# Altium footprint library 9775026360.PcbLib: 1 footprints
Each footprint in its own frame and in the unit in brackets; x right, y up, seen from the top. Pads: shape width x height; smd on the part's side, far side on the other; paste and mask are expansions set on the pad; w line width, h text height; cw(c..) or ccw(c..) is an arc to the next point about the centre after c.
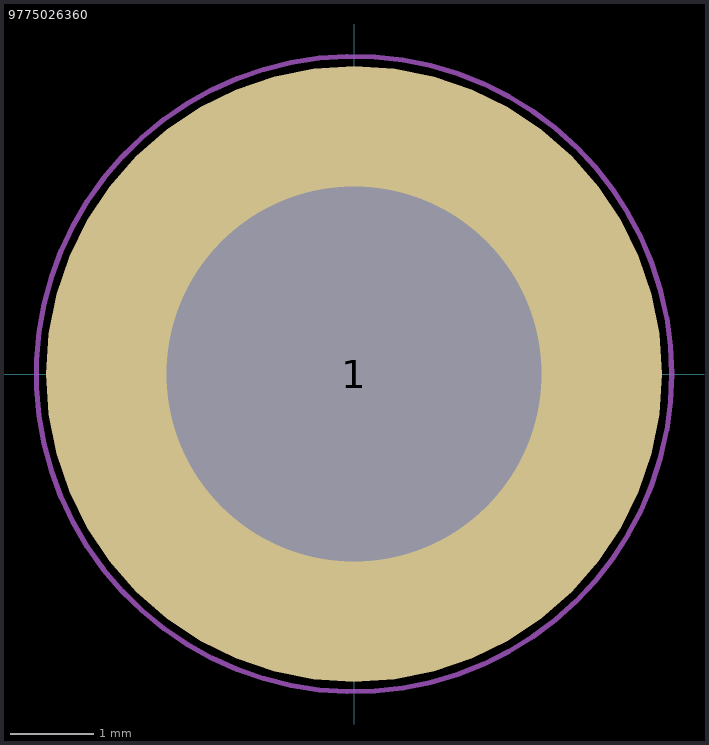
[diagram p0: the footprint, top view; thin cyan lines are the x and y axes]

## 9775026360 [mm]
pads (1):
  round 7.4 hole 4.5 mask+0.05: 1(0,0)
Top Paste:
  region: -3.613,0.4 -2.204,0.4 -2.204,0.401 -2.167,0.566 -2.057,0.887 -1.9,1.187 -1.699,1.46 -1.459,1.699 -1.186,1.9 -0.886,2.057 -0.566,2.167 -0.4,2.204 -0.4,3.613 -0.603,3.59 -1.003,3.5 -1.389,3.365 -1.759,3.188 -2.105,2.97 -2.426,2.715 -2.715,2.426 -2.97,2.105 -3.188,1.759 -3.365,1.389 -3.5,1.003 -3.59,0.603
  region: -0.4,-3.613 -0.4,-2.204 -0.401,-2.204 -0.566,-2.167 -0.887,-2.057 -1.187,-1.9 -1.46,-1.699 -1.699,-1.459 -1.9,-1.186 -2.057,-0.886 -2.167,-0.566 -2.204,-0.4 -3.613,-0.4 -3.59,-0.603 -3.5,-1.003 -3.365,-1.389 -3.188,-1.759 -2.97,-2.105 -2.715,-2.426 -2.426,-2.715 -2.105,-2.97 -1.759,-3.188 -1.389,-3.365 -1.003,-3.5 -0.603,-3.59
  region: 3.613,-0.4 2.204,-0.4 2.204,-0.401 2.167,-0.566 2.057,-0.887 1.9,-1.187 1.699,-1.46 1.459,-1.699 1.186,-1.9 0.886,-2.057 0.566,-2.167 0.4,-2.204 0.4,-3.613 0.603,-3.59 1.003,-3.5 1.389,-3.365 1.759,-3.188 2.105,-2.97 2.426,-2.715 2.715,-2.426 2.97,-2.105 3.188,-1.759 3.365,-1.389 3.5,-1.003 3.59,-0.603
  region: 0.4,3.613 0.4,2.204 0.401,2.204 0.566,2.167 0.887,2.057 1.187,1.9 1.46,1.699 1.699,1.459 1.9,1.186 2.057,0.886 2.167,0.566 2.204,0.4 3.613,0.4 3.59,0.603 3.5,1.003 3.365,1.389 3.188,1.759 2.97,2.105 2.715,2.426 2.426,2.715 2.105,2.97 1.759,3.188 1.389,3.365 1.003,3.5 0.603,3.59
Top Assembly:
  circle w0.05: c0,0 r3.821
Top Courtyard:
  circle w0.05: c0,0 r3.81
3D body "9775026360.stp": height 1, standoff -2.6, extent -3,-3 3,3